# Altium footprint library Controller-RK3562-PCB.PcbLib: 68 footprints (part 2 of 5)
Each footprint in its own frame and in the unit in brackets; x right, y up, seen from the top. Pads: shape width x height; smd on the part's side, far side on the other; paste and mask are expansions set on the pad; w line width, h text height; cw(c..) or ccw(c..) is an arc to the next point about the centre after c.
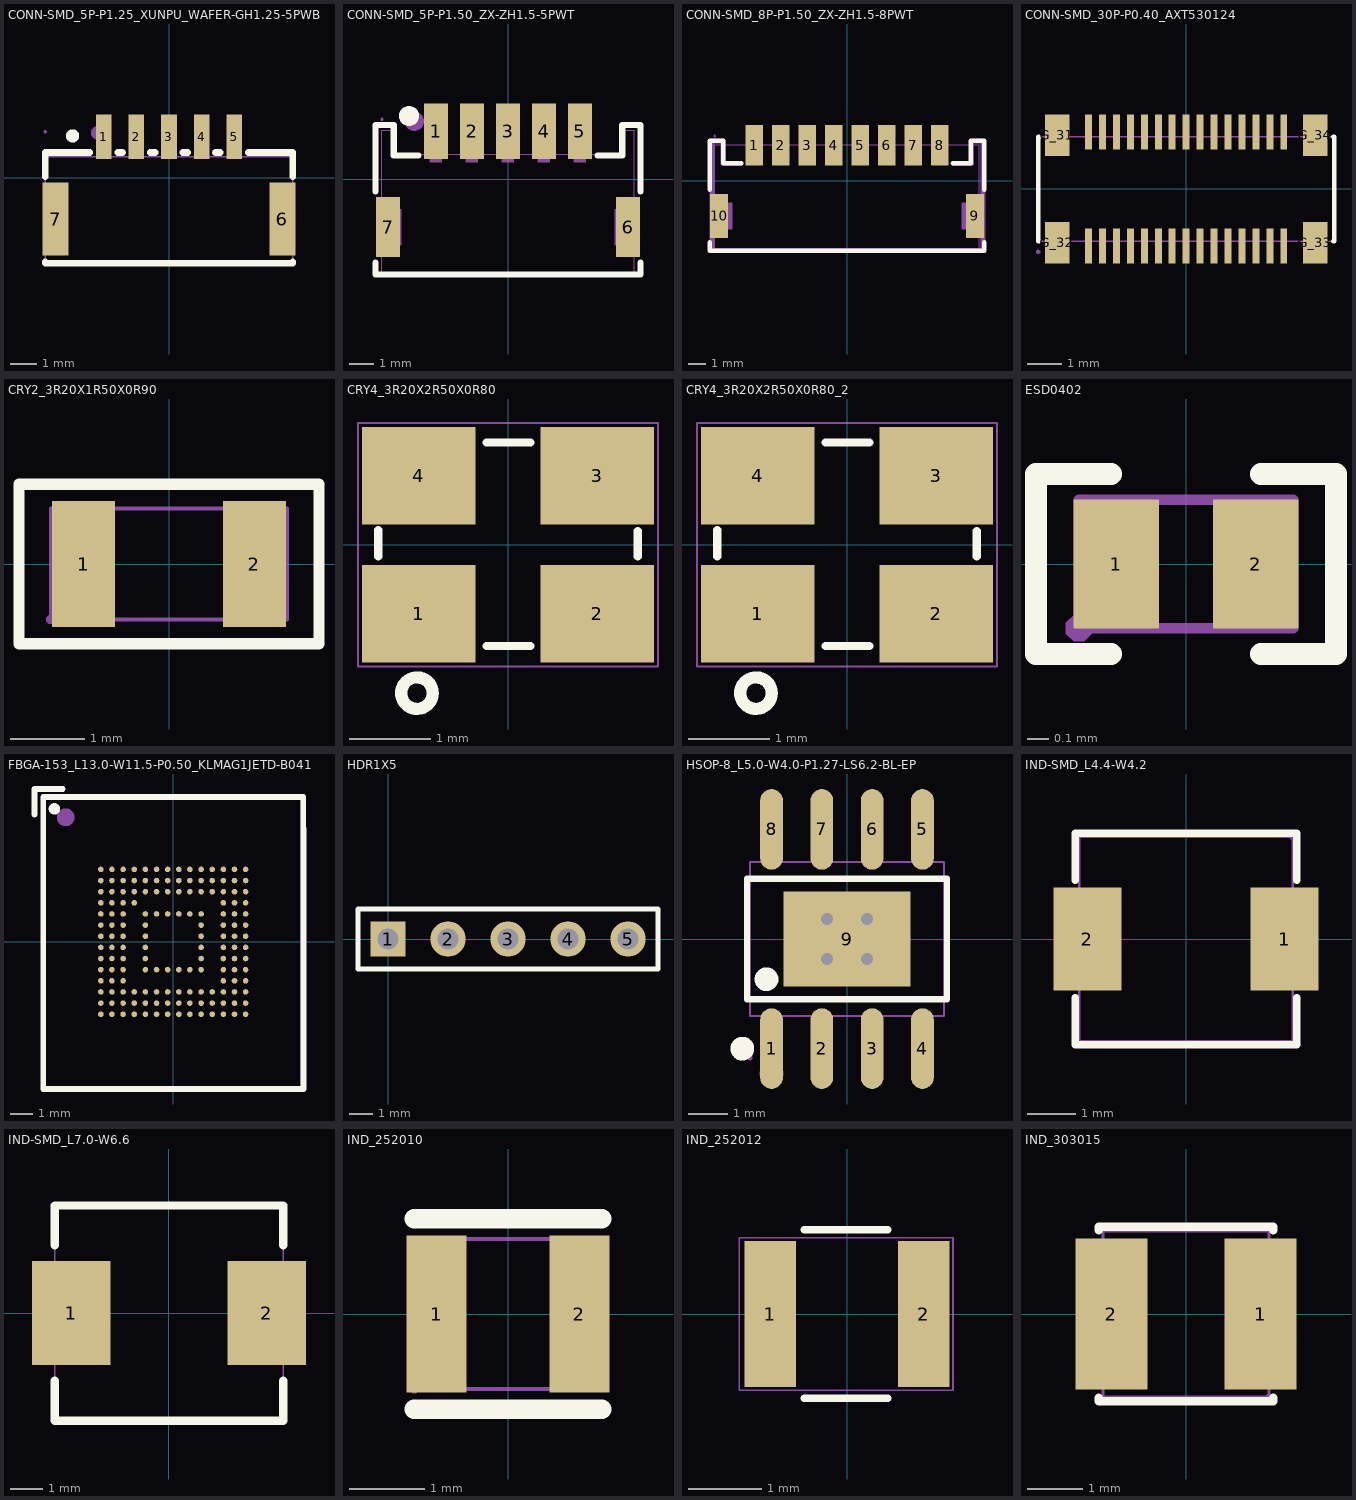
[diagram p1: the footprints below, top view; thin cyan lines are the x and y axes]

## CONN-SMD_5P-P1.25_XUNPU_WAFER-GH1.25-5PWB [mm]
pads (7):
  rect 0.6x1.7 smd paste+0 mask+0.05: 1(-2.5,1.575) 2(-1.25,1.575) 3(0,1.575) 4(1.25,1.575) 5(2.5,1.575)
  rect 1x2.8 smd paste+0 mask+0.05: 6(4.35,-1.575) 7(-4.35,-1.575)
Top Overlay:
  circle w0.254: c-3.697,1.613 r0.127
  lines w0.254: -4.75,-3.206 -4.75,-3.272 4.75,-3.272 4.75,-3.206 ; -4.75,0.056 -4.75,0.978 -3.031,0.978 ; -1.969,0.978 -1.781,0.978 ; -0.719,0.978 -0.531,0.978 ; 0.531,0.978 0.719,0.978 ; 1.781,0.978 1.969,0.978 ; 3.031,0.978 4.75,0.978 4.75,0.056
Mechanical 2:
  circle w0.254: c-2.741,1.73 r0.127
Top Component Center:
  region: 2.4,1.771 2.6,1.771 2.6,0.771 2.4,0.771
  region: -2.6,1.771 -2.4,1.771 -2.4,0.771 -2.6,0.771
  region: -1.35,1.771 -1.15,1.771 -1.15,0.771 -1.35,0.771
  region: -0.1,1.771 0.1,1.771 0.1,0.771 -0.1,0.771
  region: 1.15,1.771 1.35,1.771 1.35,0.771 1.15,0.771
  region: -4.45,-0.575 -4.25,-0.575 -4.25,-2.575 -4.45,-2.575
  region: 4.25,-0.575 4.45,-0.575 4.45,-2.575 4.25,-2.575
Mechanical 6:
  lines w0.051: -4.75,-3.229 -4.75,0.821 4.75,0.821 4.75,-3.229 -4.75,-3.229
Bottom 3D Body:
  region: -4.69,1.771 -4.69,1.746 -4.725,1.711 -4.775,1.711 -4.81,1.746 -4.81,1.771 -4.81,1.796 -4.775,1.831 -4.725,1.831 -4.69,1.796 -4.69,1.771
3D body "CON-P1.25-5P.step": height 4.36, standoff 0.01, extent -4.763,-3.2 4.738,1.8

## CONN-SMD_5P-P1.50_ZX-ZH1.5-5PWT [mm]
pads (7):
  rect 1x2.3 smd paste+0 mask+0.05: 1(-3,2) 2(-1.5,2) 3(0,2) 4(1.5,2) 5(3,2)
  rect 1x2.5 smd paste+0 mask+0.05: 6(5,-2) 7(-5,-2)
Top Overlay:
  region: -4.535,2.635 -4.535,2.717 -4.472,2.868 -4.357,2.983 -4.206,3.046 -4.042,3.046 -3.891,2.983 -3.775,2.868 -3.713,2.717 -3.713,2.635 -3.713,2.553 -3.775,2.402 -3.891,2.287 -4.042,2.224 -4.206,2.224 -4.357,2.287 -4.472,2.402 -4.535,2.553 -4.535,2.635
  lines w0.254: -5.521,-3.48 -5.521,-3.969 5.52,-3.969 ; -5.521,-0.52 -5.521,2.254 -4.759,2.254 -4.759,0.984 -3.731,0.984 ; 3.731,0.984 4.759,0.984 4.759,2.254 5.521,2.254 5.521,-0.52 ; 5.521,-3.969 5.521,-3.48
Mechanical 2:
  circle w0.4: c-3.901,2.413 r0.2
Top Component Center:
  region: 4.45,-1.25 5.25,-1.25 5.25,-2.75 4.45,-2.75
  region: 3.25,0.7 2.75,0.7 2.75,2.5 3.25,2.5
  region: 0.25,0.7 -0.25,0.7 -0.25,2.5 0.25,2.5
  region: 1.75,0.7 1.25,0.7 1.25,2.5 1.75,2.5
  region: -2.75,0.7 -3.25,0.7 -3.25,2.5 -2.75,2.5
  region: -1.25,0.7 -1.75,0.7 -1.75,2.5 -1.25,2.5
  region: -5.25,-1.25 -4.45,-1.25 -4.45,-2.75 -5.25,-2.75
Mechanical 6:
  lines w0.051: -5.25,-3.969 -5.25,2.031 -4.75,2.031 -4.75,1.031 4.75,1.031 4.75,2.031 5.25,2.031 5.25,-3.969 -5.25,-3.969
Bottom 3D Body:
  region: -5.19,2.5 -5.19,2.475 -5.225,2.44 -5.275,2.44 -5.31,2.475 -5.31,2.5 -5.31,2.525 -5.275,2.56 -5.225,2.56 -5.19,2.525 -5.19,2.5
3D body "CON-P1.5-5P.step": height 3.81, standoff 0.01, extent -5.28,-3.835 5.23,2.665

## CONN-SMD_8P-P1.50_ZX-ZH1.5-8PWT [mm]
pads (10):
  rect 1x2.3 smd paste+0 mask+0.05: 1(-5.25,2) 2(-3.75,2) 3(-2.25,2) 4(-0.75,2) 5(0.75,2) 6(2.25,2) 7(3.75,2) 8(5.25,2)
  rect 1x2.5 smd paste+0 mask+0.05: 9(7.25,-2) 10(-7.25,-2)
Top Overlay:
  lines w0.254: -7.771,-3.48 -7.771,-3.969 7.77,-3.969 ; -7.771,-0.52 -7.771,2.254 -7.009,2.254 -7.009,0.984 -5.981,0.984 ; 5.981,0.984 7.009,0.984 7.009,2.254 7.771,2.254 7.771,-0.52 ; 7.771,-3.969 7.771,-3.48
Mechanical 2:
  region: -6.012,0.857 -7.028,0.857 -7.053,0.857 -7.1,0.876 -7.136,0.912 -7.155,0.959 -7.155,0.984 -7.155,2.127 -7.536,2.127 -7.536,-3.842 7.577,-3.842 7.577,2.127 7.196,2.127 7.196,0.984 7.196,0.959 7.177,0.912 7.141,0.876 7.094,0.857 7.069,0.857 6.053,0.857 6,0.857 5.926,0.931 5.926,1.037 6,1.111 6.053,1.111 6.942,1.111 6.942,2.254 6.942,2.279 6.961,2.326 6.997,2.362 7.044,2.381 7.069,2.381 7.704,2.381 7.729,2.381 7.776,2.362 7.812,2.326 7.831,2.279 7.831,2.254 7.831,-3.969 7.831,-3.994 7.812,-4.041 7.776,-4.077 7.729,-4.096 7.704,-4.096 -7.663,-4.096 -7.688,-4.096 -7.735,-4.077 -7.771,-4.041 -7.79,-3.994 -7.79,-3.969 -7.79,2.254 -7.79,2.279 -7.771,2.326 -7.735,2.362 -7.688,2.381 -7.663,2.381 -7.028,2.381 -7.003,2.381 -6.956,2.362 -6.92,2.326 -6.901,2.279 -6.901,2.254 -6.901,1.111 -6.012,1.111 -5.959,1.111 -5.885,1.037 -5.885,0.931 -5.959,0.857 -6.012,0.857
Top Component Center:
  region: 5,2.531 5.5,2.531 5.5,1.031 5,1.031
  region: 3.5,2.531 4,2.531 4,1.031 3.5,1.031
  region: 2,2.531 2.5,2.531 2.5,1.031 2,1.031
  region: 0.5,2.531 1,2.531 1,1.031 0.5,1.031
  region: -1,2.531 -0.5,2.531 -0.5,1.031 -1,1.031
  region: -2.5,2.531 -2,2.531 -2,1.031 -2.5,1.031
  region: -4,2.531 -3.5,2.531 -3.5,1.031 -4,1.031
  region: -5.5,2.531 -5,2.531 -5,1.031 -5.5,1.031
  region: 6.5,-1.25 7.5,-1.25 7.5,-2.75 6.5,-2.75
  region: -7.5,-1.25 -6.5,-1.25 -6.5,-2.75 -7.5,-2.75
Mechanical 6:
  lines w0.051: -7.5,-3.969 -7.5,2.031 7.5,2.031 7.5,-3.969 -7.5,-3.969
Bottom 3D Body:
  region: -7.44,2.531 -7.44,2.506 -7.475,2.471 -7.525,2.471 -7.56,2.506 -7.56,2.531 -7.56,2.556 -7.525,2.591 -7.475,2.591 -7.44,2.556 -7.44,2.531
3D body "CON-1.5P-8P.step": height 3.81, standoff 0.01, extent -7.492,-3.886 7.518,2.614

## CONN-SMD_30P-P0.40_AXT530124 [mm]
pads (34):
  rect 0.2x1 smd paste+0 mask+0.05: 1(-2.8,-1.64) 2(-2.4,-1.64) 3(-2,-1.64) 4(-1.6,-1.64) 5(-1.2,-1.64) 6(-0.8,-1.64) 7(-0.4,-1.64) 8(0,-1.64) 9(0.4,-1.64) 10(0.8,-1.64) 11(1.2,-1.64) 12(1.6,-1.64) 13(2,-1.64) 14(2.4,-1.64) 15(2.8,-1.64) 16(2.8,1.64) 17(2.4,1.64) 18(2,1.64) 19(1.6,1.64) 20(1.2,1.64) 21(0.8,1.64) 22(0.4,1.64) 23(0,1.64) 24(-0.4,1.64) 25(-0.8,1.64) 26(-1.2,1.64) 27(-1.6,1.64) 28(-2,1.64) 29(-2.4,1.64) 30(-2.8,1.64)
  rect 0.7x1.2 smd paste+0 mask+0.05: G_31(-3.7,1.54) G_32(-3.7,-1.54) G_33(3.7,-1.54) G_34(3.7,1.54)
Top Overlay:
  lines w0.127: -4.218,-1.5 -4.25,-1.5 -4.25,1.5 -4.218,1.5 ; 4.218,-1.5 4.25,-1.5 4.25,1.5 4.218,1.5
Top Component Center:
  drawing of 34 lines, arcs and shapes, not listed
Mechanical 6:
  lines w0.051: -4.25,-1.5 -4.25,1.5 4.25,1.5 4.25,-1.5 -4.25,-1.5
Bottom 3D Body:
  region: -4.19,-1.8 -4.19,-1.825 -4.225,-1.86 -4.275,-1.86 -4.31,-1.825 -4.31,-1.8 -4.31,-1.775 -4.275,-1.74 -4.225,-1.74 -4.19,-1.775 -4.19,-1.8
3D body "CAM-CON30.step": height 1, standoff 0.01, extent -4.237,-1.784 4.263,1.816

## CRY2_3R20X1R50X0R90 [mm]
pads (2):
  rect 0.85x1.7 smd paste+0.051: 1(-1.155,0) 2(1.155,0)
Top Overlay:
  lines w0.152: -2.029,-1.079 -2.029,1.079 2.029,1.079 2.029,-1.079 -2.029,-1.079
Top Component Center:
  region: -0.85,-0.75 -0.85,0.75 -1.5,0.75 -1.5,-0.75
  region: 0.85,-0.75 0.85,0.75 1.5,0.75 1.5,-0.75
Mechanical 6:
  lines w0.051: -1.6,-0.75 -1.6,0.75 1.6,0.75 1.6,-0.75 -1.6,-0.75
Bottom 3D Body:
  region: -1.54,-0.75 -1.54,-0.775 -1.575,-0.81 -1.625,-0.81 -1.66,-0.775 -1.66,-0.75 -1.66,-0.725 -1.625,-0.69 -1.575,-0.69 -1.54,-0.725 -1.54,-0.75
3D body "CRY-3215.step": height 0.92, standoff 0.01, extent -1.6,-0.749 1.6,0.751

## CRY4_3R20X2R50X0R80 [mm] "CRY4_3R20X2R50X0R80"
pads (4):
  rect 1.4x1.2 smd: 1(-1.1,-0.85) 2(1.1,-0.85) 3(1.1,0.85) 4(-1.1,0.85)
Top Overlay:
  circle w0.15: c-1.123,-1.83 r0.195
  lines w0.1: -1.6,-0.142 -1.6,0.182 ; -0.266,-1.25 0.279,-1.25 ; -0.266,1.263 0.279,1.263 ; 1.6,-0.147 1.6,0.171
Top Assembly:
  lines w0.025: -1.85,-1.5 1.85,-1.5 1.85,1.5 -1.85,1.5 -1.85,-1.5
3D body "CRY-3225.step": height 0.71, standoff 0.01, extent -1.613,-1.232 1.587,1.268

## CRY4_3R20X2R50X0R80_2 [mm]
pads (4):
  rect 1.4x1.2 smd: 1(-1.1,-0.85) 2(1.1,-0.85) 3(1.1,0.85) 4(-1.1,0.85)
Top Overlay:
  circle w0.15: c-1.123,-1.83 r0.195
  lines w0.1: -1.6,-0.142 -1.6,0.182 ; -0.266,-1.25 0.279,-1.25 ; -0.266,1.263 0.279,1.263 ; 1.6,-0.147 1.6,0.171
Mechanical 10:
  text "1" at -0.998,-0.85 h0.25
  text "3" at 1.202,0.85 h0.25
  text "2" at 1.202,-0.85 h0.25
  text "4" at -0.998,0.85 h0.25
Top Assembly:
  lines w0.025: -1.85,-1.5 -1.85,1.5 1.85,1.5 1.85,-1.5 -1.85,-1.5
  text "24MHz" at -0.635,-0.318 h0.25
  text ".Designator" at -1.016,-0.572 h1.52
3D body "CRY-3225.step": height 0.71, standoff 0.01, extent -1.613,-1.232 1.587,1.268

## ESD0402 [mm]
pads (2):
  rect 0.4x0.6 smd paste+0.051: 1(-0.325,0) 2(0.325,0)
Top Overlay:
  lines w0.102: -0.35,-0.42 -0.7,-0.42 -0.7,0.42 -0.35,0.42 ; 0.35,-0.42 0.7,-0.42 0.7,0.42 0.35,0.42
Top Component Center:
  region: -0.45,0.25 -0.2,0.25 -0.2,-0.25 -0.45,-0.25
  region: 0.2,0.25 0.45,0.25 0.45,-0.25 0.2,-0.25
Mechanical 6:
  lines w0.051: -0.5,-0.3 0.5,-0.3 0.5,0.3 -0.5,0.3 -0.5,-0.3
Bottom 3D Body:
  region: -0.44,-0.3 -0.44,-0.325 -0.475,-0.36 -0.525,-0.36 -0.56,-0.325 -0.56,-0.3 -0.56,-0.275 -0.525,-0.24 -0.475,-0.24 -0.44,-0.275 -0.44,-0.3

## FBGA-153_L13.0-W11.5-P0.50_KLMAG1JETD-B041 [mm]
pads (153):
  round 0.25 smd paste-100 mask+0.05: A1(-3.25,3.25) A2(-2.75,3.25) A3(-2.25,3.25) A4(-1.75,3.25) A5(-1.25,3.25) A6(-0.75,3.25) A7(-0.25,3.25) A8(0.25,3.25) A9(0.75,3.25) A10(1.25,3.25) A11(1.75,3.25) A12(2.25,3.25) A13(2.75,3.25) A14(3.25,3.25) B1(-3.25,2.75) B2(-2.75,2.75) B3(-2.25,2.75) B4(-1.75,2.75) B5(-1.25,2.75) B6(-0.75,2.75) B7(-0.25,2.75) B8(0.25,2.75) B9(0.75,2.75) B10(1.25,2.75) B11(1.75,2.75) B12(2.25,2.75) B13(2.75,2.75) B14(3.25,2.75) C1(-3.25,2.25) C2(-2.75,2.25) C3(-2.25,2.25) C4(-1.75,2.25) C5(-1.25,2.25) C6(-0.75,2.25) C7(-0.25,2.25) C8(0.25,2.25) C9(0.75,2.25) C10(1.25,2.25) C11(1.75,2.25) C12(2.25,2.25) C13(2.75,2.25) C14(3.25,2.25) D1(-3.25,1.75) D2(-2.75,1.75) D3(-2.25,1.75) D4(-1.75,1.75) D12(2.25,1.75) D13(2.75,1.75) D14(3.25,1.75) E1(-3.25,1.25) E2(-2.75,1.25) E3(-2.25,1.25) E5(-1.25,1.25) E6(-0.75,1.25) E7(-0.25,1.25) E8(0.25,1.25) E9(0.75,1.25) E10(1.25,1.25) E12(2.25,1.25) E13(2.75,1.25) E14(3.25,1.25) F1(-3.25,0.75) F2(-2.75,0.75) F3(-2.25,0.75) F5(-1.25,0.75) F10(1.25,0.75) F12(2.25,0.75) F13(2.75,0.75) F14(3.25,0.75) G1(-3.25,0.25) G2(-2.75,0.25) G3(-2.25,0.25) G5(-1.25,0.25) G10(1.25,0.25) G12(2.25,0.25) G13(2.75,0.25) G14(3.25,0.25) H1(-3.25,-0.25) H2(-2.75,-0.25) H3(-2.25,-0.25) H5(-1.25,-0.25) H10(1.25,-0.25) H12(2.25,-0.25) H13(2.75,-0.25) H14(3.25,-0.25) J1(-3.25,-0.75) J2(-2.75,-0.75) J3(-2.25,-0.75) J5(-1.25,-0.75) J10(1.25,-0.75) J12(2.25,-0.75) J13(2.75,-0.75) J14(3.25,-0.75) K1(-3.25,-1.25) K2(-2.75,-1.25) K3(-2.25,-1.25) K5(-1.25,-1.25) K6(-0.75,-1.25) K7(-0.25,-1.25) K8(0.25,-1.25) K9(0.75,-1.25) K10(1.25,-1.25) K12(2.25,-1.25) K13(2.75,-1.25) K14(3.25,-1.25) L1(-3.25,-1.75) L2(-2.75,-1.75) L3(-2.25,-1.75) L12(2.25,-1.75) L13(2.75,-1.75) L14(3.25,-1.75) M1(-3.25,-2.25) M2(-2.75,-2.25) M3(-2.25,-2.25) M4(-1.75,-2.25) M5(-1.25,-2.25) M6(-0.75,-2.25) M7(-0.25,-2.25) M8(0.25,-2.25) M9(0.75,-2.25) M10(1.25,-2.25) M11(1.75,-2.25) M12(2.25,-2.25) M13(2.75,-2.25) M14(3.25,-2.25) N1(-3.25,-2.75) N2(-2.75,-2.75) N3(-2.25,-2.75) N4(-1.75,-2.75) N5(-1.25,-2.75) N6(-0.75,-2.75) N7(-0.25,-2.75) N8(0.25,-2.75) N9(0.75,-2.75) N10(1.25,-2.75) N11(1.75,-2.75) N12(2.25,-2.75) N13(2.75,-2.75) N14(3.25,-2.75) P1(-3.25,-3.25) P2(-2.75,-3.25) P3(-2.25,-3.25) P4(-1.75,-3.25) P5(-1.25,-3.25) P6(-0.75,-3.25) P7(-0.25,-3.25) P8(0.25,-3.25) P9(0.75,-3.25) P10(1.25,-3.25) P11(1.75,-3.25) P12(2.25,-3.25) P13(2.75,-3.25) P14(3.25,-3.25)
Top Overlay:
  circle w0.254: c-5.334,5.969 r0.127
  lines w0.254: -6.223,5.715 -6.223,6.858 -4.953,6.858 ; -5.841,-6.605 5.843,-6.605 5.843,5.079 ; -5.841,-6.5 -5.841,6.5 5.842,6.5 5.842,5.079
Mechanical 2:
  circle w0.4: c-4.826,5.588 r0.2
Mechanical 6:
  lines w0.051: -5.75,-6.5 5.75,-6.5 5.75,6.5 -5.75,6.5 -5.75,-6.5
3D body "EMMC-153.step": height 1.11, standoff 0, extent -5.725,-6.604 5.775,6.396

## HDR1X5 [mm] "Connector; Header; 5 Position"
pads (5):
  rect 1.5x1.5 hole 0.9: 1(0,0)
  round 1.5 hole 0.9: 2(2.54,0) 3(5.08,0) 4(7.62,0) 5(10.16,0)
Top Overlay:
  lines w0.2: -1.27,-1.27 11.43,-1.27 11.43,1.27 -1.27,1.27 -1.27,-1.27

## HSOP-8_L5.0-W4.0-P1.27-LS6.2-BL-EP [mm]
pads (9):
  oval 0.574x2.038 smd paste+0.051: 1(-1.905,-2.769) 2(-0.635,-2.769) 3(0.635,-2.769) 4(1.905,-2.769) 5(1.905,2.769) 6(0.635,2.769) 7(-0.635,2.769) 8(-1.905,2.769)
  rect 3.2x2.4 smd paste+0.051: 9(0,0)
via 0.5,-0.5 diameter 0.61 hole 0.305
via -0.5,-0.5 diameter 0.61 hole 0.305
via 0.5,0.5 diameter 0.61 hole 0.305
via -0.5,0.5 diameter 0.61 hole 0.305
Top Overlay:
  circle w0.3: c-2.032,-1.016 r0.15
  circle w0.3: c-2.644,-2.769 r0.15
  lines w0.152: -2.526,-1.521 -2.526,1.521 2.526,1.521 2.526,-1.521 -2.526,-1.521
Mechanical 2:
  circle w0.3: c-1.905,-3.4 r0.15
Top Component Center:
  region: -2.11,-3 -2.11,-2.165 -1.7,-2.165 -1.7,-3
  region: -0.84,-3 -0.84,-2.165 -0.43,-2.165 -0.43,-3
  region: 0.43,-3 0.43,-2.165 0.84,-2.165 0.84,-3
  region: 1.7,-3 1.7,-2.165 2.11,-2.165 2.11,-3
  region: -2.11,3 -2.11,2.165 -1.7,2.165 -1.7,3
  region: -0.84,3 -0.84,2.165 -0.43,2.165 -0.43,3
  region: 0.43,3 0.43,2.165 0.84,2.165 0.84,3
  region: 1.7,3 1.7,2.165 2.11,2.165 2.11,3
  region: -1.528,-1.115 -1.528,1.115 1.528,1.115 1.528,-1.115
Mechanical 6:
  lines w0.051: -2.45,-1.95 -2.45,1.95 2.45,1.95 2.45,-1.95 -2.45,-1.95
Top 3D Body:
  region: -2.11,-2.175 -2.11,-1.94 -1.7,-1.94 -1.7,-2.175
  region: -0.84,-2.175 -0.84,-1.94 -0.43,-1.94 -0.43,-2.175
  region: 0.43,-2.175 0.43,-1.94 0.84,-1.94 0.84,-2.175
  region: 1.7,-2.175 1.7,-1.94 2.11,-1.94 2.11,-2.175
  region: -2.11,2.175 -2.11,1.94 -1.7,1.94 -1.7,2.175
  region: -0.84,2.175 -0.84,1.94 -0.43,1.94 -0.43,2.175
  region: 0.43,2.175 0.43,1.94 0.84,1.94 0.84,2.175
  region: 1.7,2.175 1.7,1.94 2.11,1.94 2.11,2.175
Bottom 3D Body:
  region: -2.39,-3 -2.39,-3.025 -2.425,-3.06 -2.475,-3.06 -2.51,-3.025 -2.51,-3 -2.51,-2.975 -2.475,-2.94 -2.425,-2.94 -2.39,-2.975 -2.39,-3
3D body "HSOP-8.step": height 1.9, standoff 0, extent -2.444,-3.099 2.451,3.201

## IND-SMD_L4.4-W4.2 [mm]
pads (2):
  rect 1.4x2.12 smd paste+0.051: 1(2.028,0) 2(-2.028,0)
Top Overlay:
  lines w0.152: -2.276,-1.212 -2.276,-2.176 2.276,-2.176 2.276,-1.212 ; -2.276,1.212 -2.276,2.176 2.276,2.176 2.276,1.212
Top Component Center:
  region: -2.2,1 -1.4,1 -1.4,-1 -2.2,-1
  region: 1.4,1 2.2,1 2.2,-1 1.4,-1
Mechanical 6:
  lines w0.051: -2.2,-2.1 2.2,-2.1 2.2,2.1 -2.2,2.1 -2.2,-2.1
Bottom 3D Body:
  region: 2.26,2.1 2.26,2.075 2.225,2.04 2.175,2.04 2.14,2.075 2.14,2.1 2.14,2.125 2.175,2.16 2.225,2.16 2.26,2.125 2.26,2.1
3D body "IND4X4.step": height 2.11, standoff 0.01, extent -2.187,-2.121 2.213,2.079

## IND-SMD_L7.0-W6.6 [mm]
pads (2):
  rect 2.4x3.2 smd paste+0.051: 1(-3,0) 2(3,0)
Top Overlay:
  lines w0.254: -3.5,-2.081 -3.5,-3.3 -3.49,-3.3 3.5,-3.3 3.5,-2.081 ; -3.5,2.081 -3.5,3.3 3.48,3.3 3.5,3.28 ; 3.5,2.081 3.5,3.3
Top Component Center:
  region: -1.9,-1.5 -3.5,-1.5 -3.5,1.5 -1.9,1.5
  region: 1.9,1.5 3.5,1.5 3.5,-1.5 1.9,-1.5
Mechanical 6:
  lines w0.051: -3.5,-3.3 3.5,-3.3 3.5,3.3 -3.5,3.3 -3.5,-3.3
Bottom 3D Body:
  region: -3.44,-3.3 -3.44,-3.325 -3.475,-3.36 -3.525,-3.36 -3.56,-3.325 -3.56,-3.3 -3.56,-3.275 -3.525,-3.24 -3.475,-3.24 -3.44,-3.275 -3.44,-3.3
3D body "IND-7X6.step": height 3.11, standoff 0.01, extent -3.5,-3.324 3.5,3.277

## IND_252010 [mm]
pads (2):
  rect 0.8x2.1 smd paste+0.051: 1(-0.95,0) 2(0.95,0)
Top Overlay:
  lines w0.254: -1.25,-1.27 1.25,-1.27 ; -1.25,1.27 1.25,1.27
Top Component Center:
  region: 0.65,1 1.25,1 1.25,-1 0.65,-1
  region: -1.25,1 -0.65,1 -0.65,-1 -1.25,-1
Mechanical 6:
  lines w0.051: -1.25,-1 1.25,-1 1.25,1 -1.25,1 -1.25,-1
Bottom 3D Body:
  region: -1.19,-1 -1.19,-1.025 -1.225,-1.06 -1.275,-1.06 -1.31,-1.025 -1.31,-1 -1.31,-0.975 -1.275,-0.94 -1.225,-0.94 -1.19,-0.975 -1.19,-1
3D body "IND-2520.step": height 1.02, standoff 0.01, extent -1.26,-1.054 1.26,1.056

## IND_252012 [mm] "IND_252012"
pads (2):
  rect 0.7x2 smd: 1(-1.05,0) 2(1.05,0)
Top Overlay:
  lines w0.1: -0.585,-1.15 0.556,-1.15 ; -0.585,1.15 0.556,1.15
  text ".Designator" at -1.067,1.384 h0.25
Mechanical 10:
  text "2" at 1.05,-0.254 h0.64
  text "1" at -1.05,-0.254 h0.64
Top Assembly:
  lines w0.025: -1.473,-1.041 1.448,-1.041 1.448,1.041 -1.473,1.041 -1.473,-1.041
  text "2.2uH" at 0,0 h0.64

## IND_303015 [mm]
pads (2):
  rect 1.3x2.72 smd paste+0.051: 1(1.35,0) 2(-1.35,0)
Top Overlay:
  lines w0.152: -1.576,-1.512 -1.576,-1.576 1.576,-1.576 1.576,-1.512 ; -1.576,1.512 -1.576,1.576 1.576,1.576 1.576,1.512
Top Component Center:
  region: 0.75,1.25 1.5,1.25 1.5,-1.25 0.75,-1.25
  region: -0.75,-1.25 -1.5,-1.25 -1.5,1.25 -0.75,1.25
Mechanical 6:
  lines w0.051: -1.5,-1.5 -1.5,1.5 1.5,1.5 1.5,-1.5 -1.5,-1.5
Bottom 3D Body:
  region: 1.56,-1.5 1.56,-1.525 1.525,-1.56 1.475,-1.56 1.44,-1.525 1.44,-1.5 1.44,-1.475 1.475,-1.44 1.525,-1.44 1.56,-1.475 1.56,-1.5
3D body "IND3030.step": height 1.53, standoff 0.01, extent -1.5,-1.499 1.5,1.501